# Altium footprint library WM7632CT-ND.PcbLib: 1 footprints
Each footprint in its own frame and in the unit in brackets; x right, y up, seen from the top. Pads: shape width x height; smd on the part's side, far side on the other; paste and mask are expansions set on the pad; w line width, h text height; cw(c..) or ccw(c..) is an arc to the next point about the centre after c.
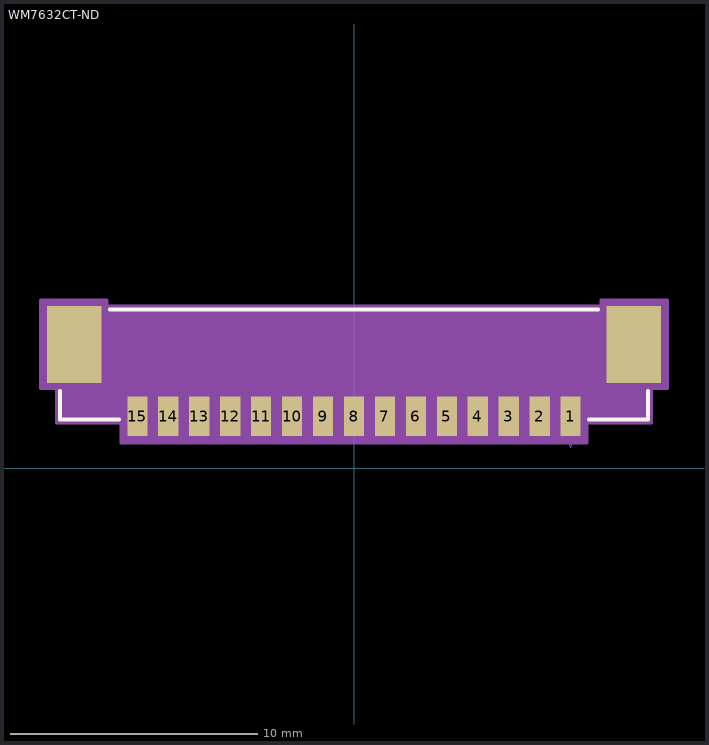
[diagram p0: the footprint, top view; thin cyan lines are the x and y axes]

## WM7632CT-ND [mil] "Molex PicoBlade 53261 15 Pos"
pads (17):
  rect 32x63 smd: 1(344.49,82.5) 2(295.28,82.5) 3(246.06,82.5) 4(196.85,82.5) 5(147.64,82.5) 6(98.43,82.5) 7(49.21,82.5) 8(0,82.5) 9(-49.21,82.5) 10(-98.43,82.5) 11(-147.64,82.5) 12(-196.85,82.5) 13(-246.06,82.5) 14(-295.28,82.5) 15(-344.49,82.5)
  rect 87x122 smd: ""(-444.88,196.67) ""(444.88,196.67)
Top Overlay:
  lines w6: -467.5,122.57 -467.5,77.5 -373.59,77.5 ; -388.28,252.5 388.28,252.5 ; 373.59,77.5 467.5,77.5 467.5,122.57
Mechanical 13:
  lines w1: 319.49,82.5 344.49,32.5 369.49,82.5 ; -462.5,82.5 -462.5,247.5 462.5,247.5 462.5,82.5 -462.5,82.5
Mechanical 15:
  region: 472.5,72.5 472.5,127 498,127 498,267 393,267 393,257.5 -393,257.5 -393,267 -498,267 -498,127 -472.5,127 -472.5,72.5 -370,72.5 -370,41 370,41 370,72.5
  lines w6: -498,127 -498,267 -393,267 -393,257.5 393,257.5 393,267 498,267 498,127 472.5,127 472.5,72.5 370,72.5 370,41 -370,41 -370,72.5 -472.5,72.5 -472.5,127 -498,127
3D body: height 10, standoff 0, extent 0,0 10,10
3D body "[PicoBlade 15 Pos] 532611571.stp": height 133.86, standoff 0, extent -470.47,58.67 470.48,263.4